# Altium schematic symbol library 2024-01-01_18-42-48.SchLib: 1 symbol
Pins are listed as number, name and electrical type; pins without a type are passive.

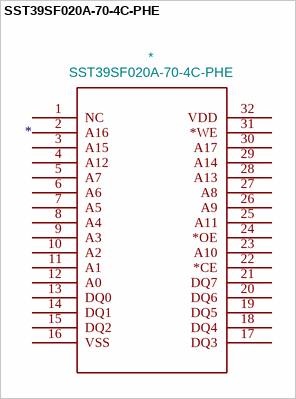
[diagram p0: symbol SST39SF020A-70-4C-PHE]

## SST39SF020A-70-4C-PHE
designator *  value SST39SF020A-70-4C-PHE
ki_fp_filters: PDIP32_PH_SST_MCH; Footprint: PDIP32_PH_SST_MCH; Supplier: SST39SF020A-70-4C-PHE; ki_keywords: SST39SF020A-70-4C-PHE
footprint PDIP32_PH_SST_MCH
pins: 1 NC, 2 A16, 3 A15, 4 A12, 5 A7, 6 A6, 7 A5, 8 A4, 9 A3, 10 A2, 11 A1, 12 A0, 13 DQ0, 14 DQ1, 15 DQ2, 16 VSS, 17 DQ3, 18 DQ4, 19 DQ5, 20 DQ6, 21 DQ7, 22 *CE, 23 A10, 24 *OE, 25 A11, 26 A9, 27 A8, 28 A13, 29 A14, 30 A17, 31 *WE, 32 VDD